# Altium schematic symbol library spacemonochrome-WR_TBL.SchLib: 1696 symbols (part 20 of 28)
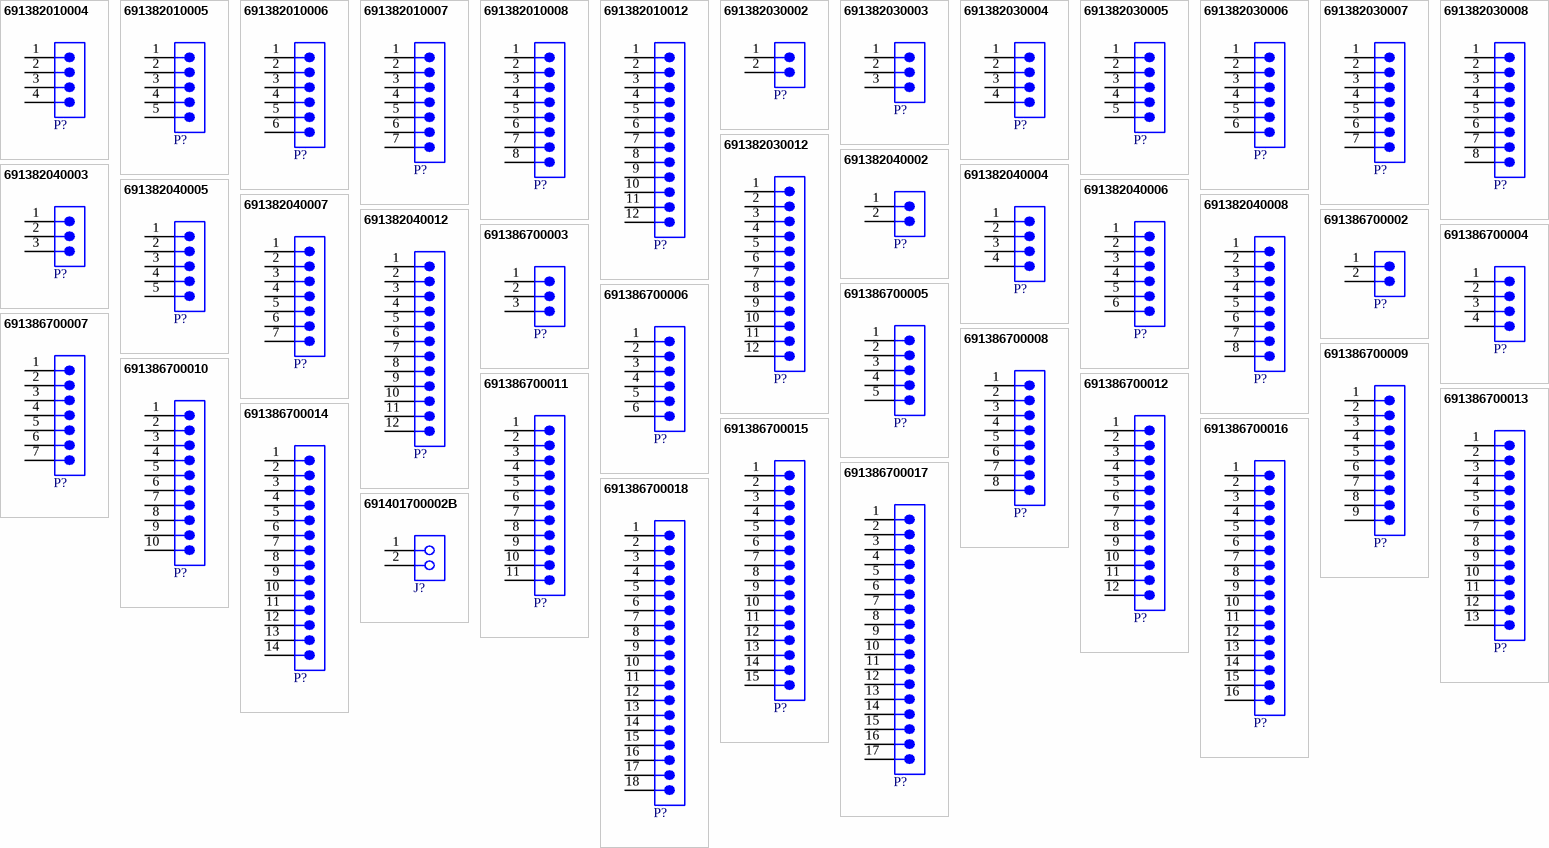
[diagram p61: symbols 691382010004 to 691401700002B]

## 691382040006
designator P?  (value not drawn)
WR-TBL Series 382 Horizontal PCB Header with Flanges, THT, pitch 2.5mm, 6p; Manufacturer: Wurth Elektronik; Modularity: No; Rated Current: 4A; Working Voltage: 160V; ComponentLink1Description: Website Link; ComponentLink1URL: https://www.we-online.com/redexpert/article/691382040006?ad; ComponentLink2Description: Datasheet Link; ComponentLink2URL: https://www.we-online.com/redexpert/spec/691382040006?ad; Manufacturer Part Number: 691382040006; Category: Terminal Blocks; Match Code: WR-TBL; Mount: Through Hole; Operating Temperature Max: 105°C; Operating Temperature Min: -40°C; Packaging: Box; Application: Pluggable; Number of Pins: 6; Number of Rows: 1; Orientation: Horizontal; Pitch: 2.5mm
footprint 691382040006
pins: 1, 2, 3, 4, 5, 6

## 691382040007
designator P?  (value not drawn)
WR-TBL Series 382 Horizontal PCB Header with Flanges, THT, pitch 2.5mm, 7p; Manufacturer: Wurth Elektronik; Modularity: No; Rated Current: 4A; Working Voltage: 160V; ComponentLink1Description: Website Link; ComponentLink1URL: https://www.we-online.com/redexpert/article/691382040007?ad; ComponentLink2Description: Datasheet Link; ComponentLink2URL: https://www.we-online.com/redexpert/spec/691382040007?ad; Manufacturer Part Number: 691382040007; Category: Terminal Blocks; Match Code: WR-TBL; Mount: Through Hole; Operating Temperature Max: 105°C; Operating Temperature Min: -40°C; Packaging: Box; Application: Pluggable; Number of Pins: 7; Number of Rows: 1; Orientation: Horizontal; Pitch: 2.5mm
footprint 691382040007
pins: 1, 2, 3, 4, 5, 6, 7

## 691382040008
designator P?  (value not drawn)
WR-TBL Series 382 Horizontal PCB Header with Flanges, THT, pitch 2.5mm, 8p; Manufacturer: Wurth Elektronik; Modularity: No; Rated Current: 4A; Working Voltage: 160V; ComponentLink1Description: Website Link; ComponentLink1URL: https://www.we-online.com/redexpert/article/691382040008?ad; ComponentLink2Description: Datasheet Link; ComponentLink2URL: https://www.we-online.com/redexpert/spec/691382040008?ad; Manufacturer Part Number: 691382040008; Category: Terminal Blocks; Match Code: WR-TBL; Mount: Through Hole; Operating Temperature Max: 105°C; Operating Temperature Min: -40°C; Packaging: Box; Application: Pluggable; Number of Pins: 8; Number of Rows: 1; Orientation: Horizontal; Pitch: 2.5mm
footprint 691382040008
pins: 1, 2, 3, 4, 5, 6, 7, 8

## 691382040012
designator P?  (value not drawn)
WR-TBL Series 382 Horizontal PCB Header with Flanges, THT, pitch 2.5mm, 12p; Manufacturer: Wurth Elektronik; Modularity: No; Rated Current: 4A; Working Voltage: 160V; ComponentLink1Description: Website Link; ComponentLink1URL: https://www.we-online.com/redexpert/article/691382040012?ad; ComponentLink2Description: Datasheet Link; ComponentLink2URL: https://www.we-online.com/redexpert/spec/691382040012?ad; Manufacturer Part Number: 691382040012; Category: Terminal Blocks; Match Code: WR-TBL; Mount: Through Hole; Operating Temperature Max: 105°C; Operating Temperature Min: -40°C; Packaging: Box; Application: Pluggable; Number of Pins: 12; Number of Rows: 1; Orientation: Horizontal; Pitch: 2.5mm
footprint 691382040012
pins: 1, 2, 3, 4, 5, 6, 7, 8, 9, 10, 11, 12

## 691386700002
designator P?  (value not drawn)
WR-TBL Series 386 Horizontal/Vertical Divisible PCB Header, THT, pitch 5mm, 2p; Manufacturer: Wurth Elektronik; Modularity: No; Rated Current: 14A; Working Voltage: 300V; ComponentLink1Description: Website Link; ComponentLink1URL: https://www.we-online.com/redexpert/article/691386700002?ad; ComponentLink2Description: Datasheet Link; ComponentLink2URL: https://www.we-online.com/redexpert/spec/691386700002?ad; Manufacturer Part Number: 691386700002; Category: Terminal Blocks; Match Code: WR-TBL; Mount: Through Hole; Operating Temperature Max: 120°C; Operating Temperature Min: -30°C; Packaging: Box; Application: Pluggable; Number of Pins: 2; Number of Rows: 1; Orientation: Horizontal/Vertical; Pitch: 5mm
footprint 691386700002
pins: 1, 2

## 691386700003
designator P?  (value not drawn)
WR-TBL Series 386 Horizontal/Vertical Divisible PCB Header, THT, pitch 5mm, 3p; Manufacturer: Wurth Elektronik; Modularity: No; Rated Current: 14A; Working Voltage: 300V; ComponentLink1Description: Website Link; ComponentLink1URL: https://www.we-online.com/redexpert/article/691386700003?ad; ComponentLink2Description: Datasheet Link; ComponentLink2URL: https://www.we-online.com/redexpert/spec/691386700003?ad; Manufacturer Part Number: 691386700003; Category: Terminal Blocks; Match Code: WR-TBL; Mount: Through Hole; Operating Temperature Max: 120°C; Operating Temperature Min: -30°C; Packaging: Box; Application: Pluggable; Number of Pins: 3; Number of Rows: 1; Orientation: Horizontal/Vertical; Pitch: 5mm
footprint 691386700003
pins: 1, 2, 3

## 691386700004
designator P?  (value not drawn)
WR-TBL Series 386 Horizontal/Vertical Divisible PCB Header, THT, pitch 5mm, 4p; Manufacturer: Wurth Elektronik; Modularity: No; Rated Current: 14A; Working Voltage: 300V; ComponentLink1Description: Website Link; ComponentLink1URL: https://www.we-online.com/redexpert/article/691386700004?ad; ComponentLink2Description: Datasheet Link; ComponentLink2URL: https://www.we-online.com/redexpert/spec/691386700004?ad; Manufacturer Part Number: 691386700004; Category: Terminal Blocks; Match Code: WR-TBL; Mount: Through Hole; Operating Temperature Max: 120°C; Operating Temperature Min: -30°C; Packaging: Box; Application: Pluggable; Number of Pins: 4; Number of Rows: 1; Orientation: Horizontal/Vertical; Pitch: 5mm
footprint 691386700004
pins: 1, 2, 3, 4

## 691386700005
designator P?  (value not drawn)
WR-TBL Series 386 Horizontal/Vertical Divisible PCB Header, THT, pitch 5mm, 5p; Manufacturer: Wurth Elektronik; Modularity: No; Rated Current: 14A; Working Voltage: 300V; ComponentLink1Description: Website Link; ComponentLink1URL: https://www.we-online.com/redexpert/article/691386700005?ad; ComponentLink2Description: Datasheet Link; ComponentLink2URL: https://www.we-online.com/redexpert/spec/691386700005?ad; Manufacturer Part Number: 691386700005; Category: Terminal Blocks; Match Code: WR-TBL; Mount: Through Hole; Operating Temperature Max: 120°C; Operating Temperature Min: -30°C; Packaging: Box; Application: Pluggable; Number of Pins: 5; Number of Rows: 1; Orientation: Horizontal/Vertical; Pitch: 5mm
footprint 691386700005
pins: 1, 2, 3, 4, 5

## 691386700006
designator P?  (value not drawn)
WR-TBL Series 386 Horizontal/Vertical Divisible PCB Header, THT, pitch 5mm, 6p; Manufacturer: Wurth Elektronik; Modularity: No; Rated Current: 14A; Working Voltage: 300V; ComponentLink1Description: Website Link; ComponentLink1URL: https://www.we-online.com/redexpert/article/691386700006?ad; ComponentLink2Description: Datasheet Link; ComponentLink2URL: https://www.we-online.com/redexpert/spec/691386700006?ad; Manufacturer Part Number: 691386700006; Category: Terminal Blocks; Match Code: WR-TBL; Mount: Through Hole; Operating Temperature Max: 120°C; Operating Temperature Min: -30°C; Packaging: Box; Application: Pluggable; Number of Pins: 6; Number of Rows: 1; Orientation: Horizontal/Vertical; Pitch: 5mm
footprint 691386700006
pins: 1, 2, 3, 4, 5, 6

## 691386700007
designator P?  (value not drawn)
WR-TBL Series 386 Horizontal/Vertical Divisible PCB Header, THT, pitch 5mm, 7p; Manufacturer: Wurth Elektronik; Modularity: No; Rated Current: 14A; Working Voltage: 300V; ComponentLink1Description: Website Link; ComponentLink1URL: https://www.we-online.com/redexpert/article/691386700007?ad; ComponentLink2Description: Datasheet Link; ComponentLink2URL: https://www.we-online.com/redexpert/spec/691386700007?ad; Manufacturer Part Number: 691386700007; Category: Terminal Blocks; Match Code: WR-TBL; Mount: Through Hole; Operating Temperature Max: 120°C; Operating Temperature Min: -30°C; Packaging: Box; Application: Pluggable; Number of Pins: 7; Number of Rows: 1; Orientation: Horizontal/Vertical; Pitch: 5mm
footprint 691386700007
pins: 1, 2, 3, 4, 5, 6, 7

## 691386700008
designator P?  (value not drawn)
WR-TBL Series 386 Horizontal/Vertical Divisible PCB Header, THT, pitch 5mm, 8p; Manufacturer: Wurth Elektronik; Modularity: No; Rated Current: 14A; Working Voltage: 300V; ComponentLink1Description: Website Link; ComponentLink1URL: https://www.we-online.com/redexpert/article/691386700008?ad; ComponentLink2Description: Datasheet Link; ComponentLink2URL: https://www.we-online.com/redexpert/spec/691386700008?ad; Manufacturer Part Number: 691386700008; Category: Terminal Blocks; Match Code: WR-TBL; Mount: Through Hole; Operating Temperature Max: 120°C; Operating Temperature Min: -30°C; Packaging: Box; Application: Pluggable; Number of Pins: 8; Number of Rows: 1; Orientation: Horizontal/Vertical; Pitch: 5mm
footprint 691386700008
pins: 1, 2, 3, 4, 5, 6, 7, 8

## 691386700009
designator P?  (value not drawn)
WR-TBL Series 386 Horizontal/Vertical Divisible PCB Header, THT, pitch 5mm, 9p; Manufacturer: Wurth Elektronik; Modularity: No; Rated Current: 14A; Working Voltage: 300V; ComponentLink1Description: Website Link; ComponentLink1URL: https://www.we-online.com/redexpert/article/691386700009?ad; ComponentLink2Description: Datasheet Link; ComponentLink2URL: https://www.we-online.com/redexpert/spec/691386700009?ad; Manufacturer Part Number: 691386700009; Category: Terminal Blocks; Match Code: WR-TBL; Mount: Through Hole; Operating Temperature Max: 120°C; Operating Temperature Min: -30°C; Packaging: Box; Application: Pluggable; Number of Pins: 9; Number of Rows: 1; Orientation: Horizontal/Vertical; Pitch: 5mm
footprint 691386700009
pins: 1, 2, 3, 4, 5, 6, 7, 8, 9

## 691386700010
designator P?  (value not drawn)
WR-TBL Series 386 Horizontal/Vertical Divisible PCB Header, THT, pitch 5mm, 10p; Manufacturer: Wurth Elektronik; Modularity: No; Rated Current: 14A; Working Voltage: 300V; ComponentLink1Description: Website Link; ComponentLink1URL: https://www.we-online.com/redexpert/article/691386700010?ad; ComponentLink2Description: Datasheet Link; ComponentLink2URL: https://www.we-online.com/redexpert/spec/691386700010?ad; Manufacturer Part Number: 691386700010; Category: Terminal Blocks; Match Code: WR-TBL; Mount: Through Hole; Operating Temperature Max: 120°C; Operating Temperature Min: -30°C; Packaging: Box; Application: Pluggable; Number of Pins: 10; Number of Rows: 1; Orientation: Horizontal/Vertical; Pitch: 5mm
footprint 691386700010
pins: 1, 2, 3, 4, 5, 6, 7, 8, 9, 10

## 691386700011
designator P?  (value not drawn)
WR-TBL Series 386 Horizontal/Vertical Divisible PCB Header, THT, pitch 5mm, 11p; Manufacturer: Wurth Elektronik; Modularity: No; Rated Current: 14A; Working Voltage: 300V; ComponentLink1Description: Website Link; ComponentLink1URL: https://www.we-online.com/redexpert/article/691386700011?ad; ComponentLink2Description: Datasheet Link; ComponentLink2URL: https://www.we-online.com/redexpert/spec/691386700011?ad; Manufacturer Part Number: 691386700011; Category: Terminal Blocks; Match Code: WR-TBL; Mount: Through Hole; Operating Temperature Max: 120°C; Operating Temperature Min: -30°C; Packaging: Box; Application: Pluggable; Number of Pins: 11; Number of Rows: 1; Orientation: Horizontal/Vertical; Pitch: 5mm
footprint 691386700011
pins: 1, 2, 3, 4, 5, 6, 7, 8, 9, 10, 11

## 691386700012
designator P?  (value not drawn)
WR-TBL Series 386 Horizontal/Vertical Divisible PCB Header, THT, pitch 5mm, 12p; Manufacturer: Wurth Elektronik; Modularity: No; Rated Current: 14A; Working Voltage: 300V; ComponentLink1Description: Website Link; ComponentLink1URL: https://www.we-online.com/redexpert/article/691386700012?ad; ComponentLink2Description: Datasheet Link; ComponentLink2URL: https://www.we-online.com/redexpert/spec/691386700012?ad; Manufacturer Part Number: 691386700012; Category: Terminal Blocks; Match Code: WR-TBL; Mount: Through Hole; Operating Temperature Max: 120°C; Operating Temperature Min: -30°C; Packaging: Box; Application: Pluggable; Number of Pins: 12; Number of Rows: 1; Orientation: Horizontal/Vertical; Pitch: 5mm
footprint 691386700012
pins: 1, 2, 3, 4, 5, 6, 7, 8, 9, 10, 11, 12

## 691386700013
designator P?  (value not drawn)
WR-TBL Series 386 Horizontal/Vertical Divisible PCB Header, THT, pitch 5mm, 13p; Manufacturer: Wurth Elektronik; Modularity: No; Rated Current: 14A; Working Voltage: 300V; ComponentLink1Description: Website Link; ComponentLink1URL: https://www.we-online.com/redexpert/article/691386700013?ad; ComponentLink2Description: Datasheet Link; ComponentLink2URL: https://www.we-online.com/redexpert/spec/691386700013?ad; Manufacturer Part Number: 691386700013; Category: Terminal Blocks; Match Code: WR-TBL; Mount: Through Hole; Operating Temperature Max: 120°C; Operating Temperature Min: -30°C; Packaging: Box; Application: Pluggable; Number of Pins: 13; Number of Rows: 1; Orientation: Horizontal/Vertical; Pitch: 5mm
footprint 691386700013
pins: 1, 2, 3, 4, 5, 6, 7, 8, 9, 10, 11, 12, 13

## 691386700014
designator P?  (value not drawn)
WR-TBL Series 386 Horizontal/Vertical Divisible PCB Header, THT, pitch 5mm, 14p; Manufacturer: Wurth Elektronik; Modularity: No; Rated Current: 14A; Working Voltage: 300V; ComponentLink1Description: Website Link; ComponentLink1URL: https://www.we-online.com/redexpert/article/691386700014?ad; ComponentLink2Description: Datasheet Link; ComponentLink2URL: https://www.we-online.com/redexpert/spec/691386700014?ad; Manufacturer Part Number: 691386700014; Category: Terminal Blocks; Match Code: WR-TBL; Mount: Through Hole; Operating Temperature Max: 120°C; Operating Temperature Min: -30°C; Packaging: Box; Application: Pluggable; Number of Pins: 14; Number of Rows: 1; Orientation: Horizontal/Vertical; Pitch: 5mm
footprint 691386700014
pins: 1, 2, 3, 4, 5, 6, 7, 8, 9, 10, 11, 12, 13, 14

## 691386700015
designator P?  (value not drawn)
WR-TBL Series 386 Horizontal/Vertical Divisible PCB Header, THT, pitch 5mm, 15p; Manufacturer: Wurth Elektronik; Modularity: No; Rated Current: 14A; Working Voltage: 300V; ComponentLink1Description: Website Link; ComponentLink1URL: https://www.we-online.com/redexpert/article/691386700015?ad; ComponentLink2Description: Datasheet Link; ComponentLink2URL: https://www.we-online.com/redexpert/spec/691386700015?ad; Manufacturer Part Number: 691386700015; Category: Terminal Blocks; Match Code: WR-TBL; Mount: Through Hole; Operating Temperature Max: 120°C; Operating Temperature Min: -30°C; Packaging: Box; Application: Pluggable; Number of Pins: 15; Number of Rows: 1; Orientation: Horizontal/Vertical; Pitch: 5mm
footprint 691386700015
pins: 1, 2, 3, 4, 5, 6, 7, 8, 9, 10, 11, 12, 13, 14, 15

## 691386700016
designator P?  (value not drawn)
WR-TBL Series 386 Horizontal/Vertical Divisible PCB Header, THT, pitch 5mm, 16p; Manufacturer: Wurth Elektronik; Modularity: No; Rated Current: 14A; Working Voltage: 300V; ComponentLink1Description: Website Link; ComponentLink1URL: https://www.we-online.com/redexpert/article/691386700016?ad; ComponentLink2Description: Datasheet Link; ComponentLink2URL: https://www.we-online.com/redexpert/spec/691386700016?ad; Manufacturer Part Number: 691386700016; Category: Terminal Blocks; Match Code: WR-TBL; Mount: Through Hole; Operating Temperature Max: 120°C; Operating Temperature Min: -30°C; Packaging: Box; Application: Pluggable; Number of Pins: 16; Number of Rows: 1; Orientation: Horizontal/Vertical; Pitch: 5mm
footprint 691386700016
pins: 1, 2, 3, 4, 5, 6, 7, 8, 9, 10, 11, 12, 13, 14, 15, 16

## 691386700017
designator P?  (value not drawn)
WR-TBL Series 386 Horizontal/Vertical Divisible PCB Header, THT, pitch 5mm, 17p; Manufacturer: Wurth Elektronik; Modularity: No; Rated Current: 14A; Working Voltage: 300V; ComponentLink1Description: Website Link; ComponentLink1URL: https://www.we-online.com/redexpert/article/691386700017?ad; ComponentLink2Description: Datasheet Link; ComponentLink2URL: https://www.we-online.com/redexpert/spec/691386700017?ad; Manufacturer Part Number: 691386700017; Category: Terminal Blocks; Match Code: WR-TBL; Mount: Through Hole; Operating Temperature Max: 120°C; Operating Temperature Min: -30°C; Packaging: Box; Application: Pluggable; Number of Pins: 17; Number of Rows: 1; Orientation: Horizontal/Vertical; Pitch: 5mm
footprint 691386700017
pins: 1, 2, 3, 4, 5, 6, 7, 8, 9, 10, 11, 12, 13, 14, 15, 16, 17

## 691386700018
designator P?  (value not drawn)
WR-TBL Series 386 Horizontal/Vertical Divisible PCB Header, THT, pitch 5mm, 18p; Manufacturer: Wurth Elektronik; Modularity: No; Rated Current: 14A; Working Voltage: 300V; ComponentLink1Description: Website Link; ComponentLink1URL: https://www.we-online.com/redexpert/article/691386700018?ad; ComponentLink2Description: Datasheet Link; ComponentLink2URL: https://www.we-online.com/redexpert/spec/691386700018?ad; Manufacturer Part Number: 691386700018; Category: Terminal Blocks; Match Code: WR-TBL; Mount: Through Hole; Operating Temperature Max: 120°C; Operating Temperature Min: -30°C; Packaging: Box; Application: Pluggable; Number of Pins: 18; Number of Rows: 1; Orientation: Horizontal/Vertical; Pitch: 5mm
footprint 691386700018
pins: 1, 2, 3, 4, 5, 6, 7, 8, 9, 10, 11, 12, 13, 14, 15, 16, 17, 18

## 691401700002B
designator J?  (value not drawn)
WR-TBL Series 401B Vertical Entry, THT, pitch 5mm, 2p; Manufacturer: Wurth Elektronik; Modularity: No; Rated Current: 10A; Working Voltage: 300V; ComponentLink1Description: Website Link; ComponentLink1URL: https://www.we-online.com/redexpert/article/691401700002B?ad; ComponentLink2Description: Datasheet Link; ComponentLink2URL: https://www.we-online.com/redexpert/spec/691401700002B?ad; Manufacturer Part Number: 691401700002B; Category: Terminal Blocks; Match Code: WR-TBL; Mount: Through Hole; Operating Temperature Max: 105°C; Operating Temperature Min: -40°C; Packaging: Box; Application: Screwless; Number of Pins: 2; Number of Rows: 1; Orientation: Vertical; Pitch: 5mm
footprint 691401700002B
pins: 1, 2

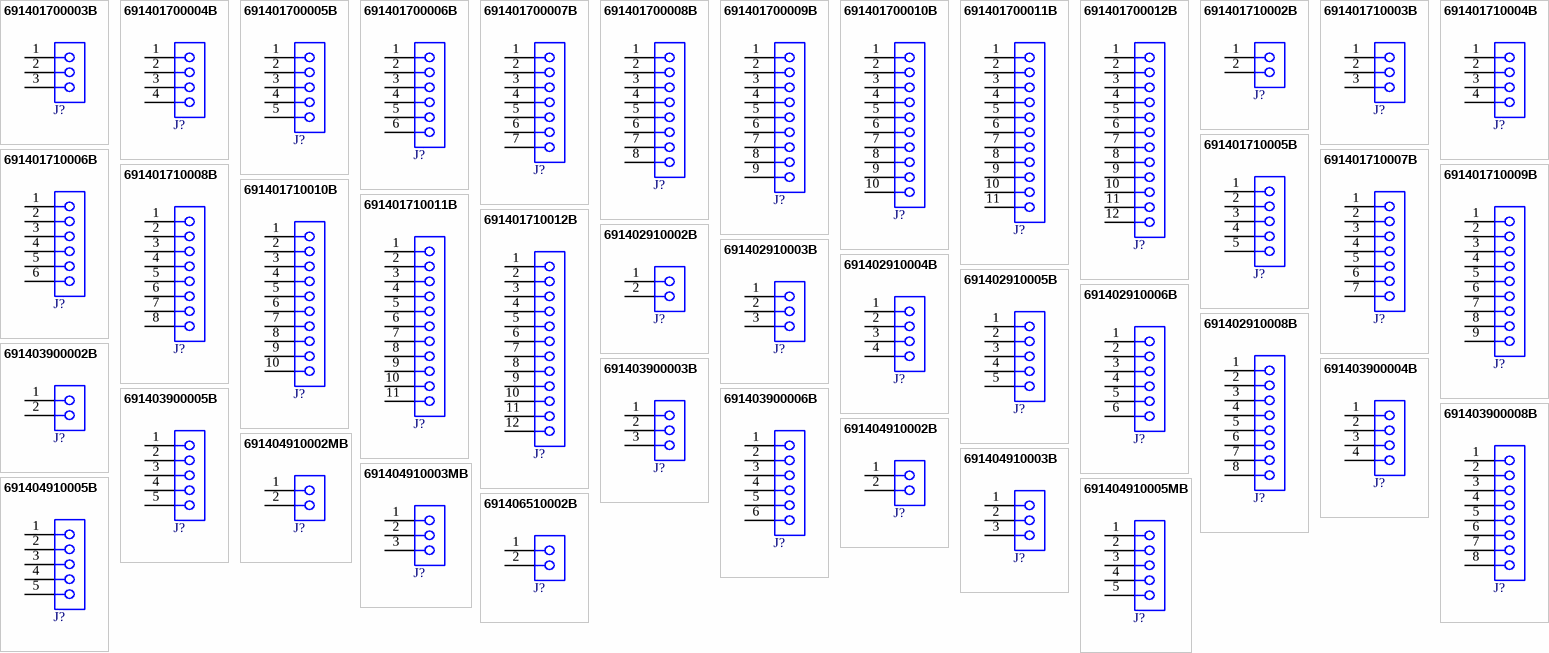
[diagram p30: symbols 691401700003B to 691406510002B]

## 691401700003B
designator J?  (value not drawn)
WR-TBL Series 401B Vertical Entry, THT, pitch 5mm, 3p; Manufacturer: Wurth Elektronik; Modularity: No; Rated Current: 10A; Working Voltage: 300V; ComponentLink1Description: Website Link; ComponentLink1URL: https://www.we-online.com/redexpert/article/691401700003B?ad; ComponentLink2Description: Datasheet Link; ComponentLink2URL: https://www.we-online.com/redexpert/spec/691401700003B?ad; Manufacturer Part Number: 691401700003B; Category: Terminal Blocks; Match Code: WR-TBL; Mount: Through Hole; Operating Temperature Max: 105°C; Operating Temperature Min: -40°C; Packaging: Box; Application: Screwless; Number of Pins: 3; Number of Rows: 1; Orientation: Vertical; Pitch: 5mm
footprint 691401700003B
pins: 1, 2, 3

## 691401700004B
designator J?  (value not drawn)
WR-TBL Series 401B Vertical Entry, THT, pitch 5mm, 4p; Manufacturer: Wurth Elektronik; Modularity: No; Rated Current: 10A; Working Voltage: 300V; ComponentLink1Description: Website Link; ComponentLink1URL: https://www.we-online.com/redexpert/article/691401700004B?ad; ComponentLink2Description: Datasheet Link; ComponentLink2URL: https://www.we-online.com/redexpert/spec/691401700004B?ad; Manufacturer Part Number: 691401700004B; Category: Terminal Blocks; Match Code: WR-TBL; Mount: Through Hole; Operating Temperature Max: 105°C; Operating Temperature Min: -40°C; Packaging: Box; Application: Screwless; Number of Pins: 4; Number of Rows: 1; Orientation: Vertical; Pitch: 5mm
footprint 691401700004B
pins: 1, 2, 3, 4

## 691401700005B
designator J?  (value not drawn)
WR-TBL Series 401B Vertical Entry, THT, pitch 5mm, 5p; Manufacturer: Wurth Elektronik; Modularity: No; Rated Current: 10A; Working Voltage: 300V; ComponentLink1Description: Website Link; ComponentLink1URL: https://www.we-online.com/redexpert/article/691401700005B?ad; ComponentLink2Description: Datasheet Link; ComponentLink2URL: https://www.we-online.com/redexpert/spec/691401700005B?ad; Manufacturer Part Number: 691401700005B; Category: Terminal Blocks; Match Code: WR-TBL; Mount: Through Hole; Operating Temperature Max: 105°C; Operating Temperature Min: -40°C; Packaging: Box; Application: Screwless; Number of Pins: 5; Number of Rows: 1; Orientation: Vertical; Pitch: 5mm
footprint 691401700005B
pins: 1, 2, 3, 4, 5

## 691401700006B
designator J?  (value not drawn)
WR-TBL Series 401B Vertical Entry, THT, pitch 5mm, 6p; Manufacturer: Wurth Elektronik; Modularity: No; Rated Current: 10A; Working Voltage: 300V; ComponentLink1Description: Website Link; ComponentLink1URL: https://www.we-online.com/redexpert/article/691401700006B?ad; ComponentLink2Description: Datasheet Link; ComponentLink2URL: https://www.we-online.com/redexpert/spec/691401700006B?ad; Manufacturer Part Number: 691401700006B; Category: Terminal Blocks; Match Code: WR-TBL; Mount: Through Hole; Operating Temperature Max: 105°C; Operating Temperature Min: -40°C; Packaging: Box; Application: Screwless; Number of Pins: 6; Number of Rows: 1; Orientation: Vertical; Pitch: 5mm
footprint 691401700006B
pins: 1, 2, 3, 4, 5, 6

## 691401700007B
designator J?  (value not drawn)
WR-TBL Series 401B Vertical Entry, THT, pitch 5mm, 7p; Manufacturer: Wurth Elektronik; Modularity: No; Rated Current: 10A; Working Voltage: 300V; ComponentLink1Description: Website Link; ComponentLink1URL: https://www.we-online.com/redexpert/article/691401700007B?ad; ComponentLink2Description: Datasheet Link; ComponentLink2URL: https://www.we-online.com/redexpert/spec/691401700007B?ad; Manufacturer Part Number: 691401700007B; Category: Terminal Blocks; Match Code: WR-TBL; Mount: Through Hole; Operating Temperature Max: 105°C; Operating Temperature Min: -40°C; Packaging: Box; Application: Screwless; Number of Pins: 7; Number of Rows: 1; Orientation: Vertical; Pitch: 5mm
footprint 691401700007B
pins: 1, 2, 3, 4, 5, 6, 7

## 691401700008B
designator J?  (value not drawn)
WR-TBL Series 401B Vertical Entry, THT, pitch 5mm, 8p; Manufacturer: Wurth Elektronik; Modularity: No; Rated Current: 10A; Working Voltage: 300V; ComponentLink1Description: Website Link; ComponentLink1URL: https://www.we-online.com/redexpert/article/691401700008B?ad; ComponentLink2Description: Datasheet Link; ComponentLink2URL: https://www.we-online.com/redexpert/spec/691401700008B?ad; Manufacturer Part Number: 691401700008B; Category: Terminal Blocks; Match Code: WR-TBL; Mount: Through Hole; Operating Temperature Max: 105°C; Operating Temperature Min: -40°C; Packaging: Box; Application: Screwless; Number of Pins: 8; Number of Rows: 1; Orientation: Vertical; Pitch: 5mm
footprint 691401700008B
pins: 1, 2, 3, 4, 5, 6, 7, 8

## 691401700009B
designator J?  (value not drawn)
WR-TBL Series 401B Vertical Entry, THT, pitch 5mm, 9p; Manufacturer: Wurth Elektronik; Modularity: No; Rated Current: 10A; Working Voltage: 300V; ComponentLink1Description: Website Link; ComponentLink1URL: https://www.we-online.com/redexpert/article/691401700009B?ad; ComponentLink2Description: Datasheet Link; ComponentLink2URL: https://www.we-online.com/redexpert/spec/691401700009B?ad; Manufacturer Part Number: 691401700009B; Category: Terminal Blocks; Match Code: WR-TBL; Mount: Through Hole; Operating Temperature Max: 105°C; Operating Temperature Min: -40°C; Packaging: Box; Application: Screwless; Number of Pins: 9; Number of Rows: 1; Orientation: Vertical; Pitch: 5mm
footprint 691401700009B
pins: 1, 2, 3, 4, 5, 6, 7, 8, 9

## 691401700010B
designator J?  (value not drawn)
WR-TBL Series 401B Vertical Entry, THT, pitch 5mm, 10p; Manufacturer: Wurth Elektronik; Modularity: No; Rated Current: 10A; Working Voltage: 300V; ComponentLink1Description: Website Link; ComponentLink1URL: https://www.we-online.com/redexpert/article/691401700010B?ad; ComponentLink2Description: Datasheet Link; ComponentLink2URL: https://www.we-online.com/redexpert/spec/691401700010B?ad; Manufacturer Part Number: 691401700010B; Category: Terminal Blocks; Match Code: WR-TBL; Mount: Through Hole; Operating Temperature Max: 105°C; Operating Temperature Min: -40°C; Packaging: Box; Application: Screwless; Number of Pins: 10; Number of Rows: 1; Orientation: Vertical; Pitch: 5mm
footprint 691401700010B
pins: 1, 2, 3, 4, 5, 6, 7, 8, 9, 10

## 691401700011B
designator J?  (value not drawn)
WR-TBL Series 401B Vertical Entry, THT, pitch 5mm, 11p; Manufacturer: Wurth Elektronik; Modularity: No; Rated Current: 10A; Working Voltage: 300V; ComponentLink1Description: Website Link; ComponentLink1URL: https://www.we-online.com/redexpert/article/691401700011B?ad; ComponentLink2Description: Datasheet Link; ComponentLink2URL: https://www.we-online.com/redexpert/spec/691401700011B?ad; Manufacturer Part Number: 691401700011B; Category: Terminal Blocks; Match Code: WR-TBL; Mount: Through Hole; Operating Temperature Max: 105°C; Operating Temperature Min: -40°C; Packaging: Box; Application: Screwless; Number of Pins: 11; Number of Rows: 1; Orientation: Vertical; Pitch: 5mm
footprint 691401700011B
pins: 1, 2, 3, 4, 5, 6, 7, 8, 9, 10, 11

## 691401700012B
designator J?  (value not drawn)
WR-TBL Series 401B Vertical Entry, THT, pitch 5mm, 12p; Manufacturer: Wurth Elektronik; Modularity: No; Rated Current: 10A; Working Voltage: 300V; ComponentLink1Description: Website Link; ComponentLink1URL: https://www.we-online.com/redexpert/article/691401700012B?ad; ComponentLink2Description: Datasheet Link; ComponentLink2URL: https://www.we-online.com/redexpert/spec/691401700012B?ad; Manufacturer Part Number: 691401700012B; Category: Terminal Blocks; Match Code: WR-TBL; Mount: Through Hole; Operating Temperature Max: 105°C; Operating Temperature Min: -40°C; Packaging: Box; Application: Screwless; Number of Pins: 12; Number of Rows: 1; Orientation: Vertical; Pitch: 5mm
footprint 691401700012B
pins: 1, 2, 3, 4, 5, 6, 7, 8, 9, 10, 11, 12

## 691401710002B
designator J?  (value not drawn)
WR-TBL Series 401B Horizontal Entry, THT, pitch 5mm, 2p; Manufacturer: Wurth Elektronik; Modularity: No; Rated Current: 10A; Working Voltage: 300V; ComponentLink1Description: Website Link; ComponentLink1URL: https://www.we-online.com/redexpert/article/691401710002B?ad; ComponentLink2Description: Datasheet Link; ComponentLink2URL: https://www.we-online.com/redexpert/spec/691401710002B?ad; Manufacturer Part Number: 691401710002B; Category: Terminal Blocks; Match Code: WR-TBL; Mount: Through Hole; Operating Temperature Max: 105°C; Operating Temperature Min: -40°C; Packaging: Box; Application: Screwless; Number of Pins: 2; Number of Rows: 1; Orientation: Horizontal; Pitch: 5mm
footprint 691401710002B
pins: 1, 2

## 691401710003B
designator J?  (value not drawn)
WR-TBL Series 401B Horizontal Entry, THT, pitch 5mm, 3p; Manufacturer: Wurth Elektronik; Modularity: No; Rated Current: 10A; Working Voltage: 300V; ComponentLink1Description: Website Link; ComponentLink1URL: https://www.we-online.com/redexpert/article/691401710003B?ad; ComponentLink2Description: Datasheet Link; ComponentLink2URL: https://www.we-online.com/redexpert/spec/691401710003B?ad; Manufacturer Part Number: 691401710003B; Category: Terminal Blocks; Match Code: WR-TBL; Mount: Through Hole; Operating Temperature Max: 105°C; Operating Temperature Min: -40°C; Packaging: Box; Application: Screwless; Number of Pins: 3; Number of Rows: 1; Orientation: Horizontal; Pitch: 5mm
footprint 691401710003B
pins: 1, 2, 3

## 691401710004B
designator J?  (value not drawn)
WR-TBL Series 401B Horizontal Entry, THT, pitch 5mm, 4p; Manufacturer: Wurth Elektronik; Modularity: No; Rated Current: 10A; Working Voltage: 300V; ComponentLink1Description: Website Link; ComponentLink1URL: https://www.we-online.com/redexpert/article/691401710004B?ad; ComponentLink2Description: Datasheet Link; ComponentLink2URL: https://www.we-online.com/redexpert/spec/691401710004B?ad; Manufacturer Part Number: 691401710004B; Category: Terminal Blocks; Match Code: WR-TBL; Mount: Through Hole; Operating Temperature Max: 105°C; Operating Temperature Min: -40°C; Packaging: Box; Application: Screwless; Number of Pins: 4; Number of Rows: 1; Orientation: Horizontal; Pitch: 5mm
footprint 691401710004B
pins: 1, 2, 3, 4

## 691401710005B
designator J?  (value not drawn)
WR-TBL Series 401B Horizontal Entry, THT, pitch 5mm, 5p; Manufacturer: Wurth Elektronik; Modularity: No; Rated Current: 10A; Working Voltage: 300V; ComponentLink1Description: Website Link; ComponentLink1URL: https://www.we-online.com/redexpert/article/691401710005B?ad; ComponentLink2Description: Datasheet Link; ComponentLink2URL: https://www.we-online.com/redexpert/spec/691401710005B?ad; Manufacturer Part Number: 691401710005B; Category: Terminal Blocks; Match Code: WR-TBL; Mount: Through Hole; Operating Temperature Max: 105°C; Operating Temperature Min: -40°C; Packaging: Box; Application: Screwless; Number of Pins: 5; Number of Rows: 1; Orientation: Horizontal; Pitch: 5mm
footprint 691401710005B
pins: 1, 2, 3, 4, 5

## 691401710006B
designator J?  (value not drawn)
WR-TBL Series 401B Horizontal Entry, THT, pitch 5mm, 6p; Manufacturer: Wurth Elektronik; Modularity: No; Rated Current: 10A; Working Voltage: 300V; ComponentLink1Description: Website Link; ComponentLink1URL: https://www.we-online.com/redexpert/article/691401710006B?ad; ComponentLink2Description: Datasheet Link; ComponentLink2URL: https://www.we-online.com/redexpert/spec/691401710006B?ad; Manufacturer Part Number: 691401710006B; Category: Terminal Blocks; Match Code: WR-TBL; Mount: Through Hole; Operating Temperature Max: 105°C; Operating Temperature Min: -40°C; Packaging: Box; Application: Screwless; Number of Pins: 6; Number of Rows: 1; Orientation: Horizontal; Pitch: 5mm
footprint 691401710006B
pins: 1, 2, 3, 4, 5, 6

## 691401710007B
designator J?  (value not drawn)
WR-TBL Series 401B Horizontal Entry, THT, pitch 5mm, 7p; Manufacturer: Wurth Elektronik; Modularity: No; Rated Current: 10A; Working Voltage: 300V; ComponentLink1Description: Website Link; ComponentLink1URL: https://www.we-online.com/redexpert/article/691401710007B?ad; ComponentLink2Description: Datasheet Link; ComponentLink2URL: https://www.we-online.com/redexpert/spec/691401710007B?ad; Manufacturer Part Number: 691401710007B; Category: Terminal Blocks; Match Code: WR-TBL; Mount: Through Hole; Operating Temperature Max: 105°C; Operating Temperature Min: -40°C; Packaging: Box; Application: Screwless; Number of Pins: 7; Number of Rows: 1; Orientation: Horizontal; Pitch: 5mm
footprint 691401710007B
pins: 1, 2, 3, 4, 5, 6, 7

## 691401710008B
designator J?  (value not drawn)
WR-TBL Series 401B Horizontal Entry, THT, pitch 5mm, 8p; Manufacturer: Wurth Elektronik; Modularity: No; Rated Current: 10A; Working Voltage: 300V; ComponentLink1Description: Website Link; ComponentLink1URL: https://www.we-online.com/redexpert/article/691401710008B?ad; ComponentLink2Description: Datasheet Link; ComponentLink2URL: https://www.we-online.com/redexpert/spec/691401710008B?ad; Manufacturer Part Number: 691401710008B; Category: Terminal Blocks; Match Code: WR-TBL; Mount: Through Hole; Operating Temperature Max: 105°C; Operating Temperature Min: -40°C; Packaging: Box; Application: Screwless; Number of Pins: 8; Number of Rows: 1; Orientation: Horizontal; Pitch: 5mm
footprint 691401710008B
pins: 1, 2, 3, 4, 5, 6, 7, 8

## 691401710009B
designator J?  (value not drawn)
WR-TBL Series 401B Horizontal Entry, THT, pitch 5mm, 9p; Manufacturer: Wurth Elektronik; Modularity: No; Rated Current: 10A; Working Voltage: 300V; ComponentLink1Description: Website Link; ComponentLink1URL: https://www.we-online.com/redexpert/article/691401710009B?ad; ComponentLink2Description: Datasheet Link; ComponentLink2URL: https://www.we-online.com/redexpert/spec/691401710009B?ad; Manufacturer Part Number: 691401710009B; Category: Terminal Blocks; Match Code: WR-TBL; Mount: Through Hole; Operating Temperature Max: 105°C; Operating Temperature Min: -40°C; Packaging: Box; Application: Screwless; Number of Pins: 9; Number of Rows: 1; Orientation: Horizontal; Pitch: 5mm
footprint 691401710009B
pins: 1, 2, 3, 4, 5, 6, 7, 8, 9

## 691401710010B
designator J?  (value not drawn)
WR-TBL Series 401B Horizontal Entry, THT, pitch 5mm, 10p; Manufacturer: Wurth Elektronik; Modularity: No; Rated Current: 10A; Working Voltage: 300V; ComponentLink1Description: Website Link; ComponentLink1URL: https://www.we-online.com/redexpert/article/691401710010B?ad; ComponentLink2Description: Datasheet Link; ComponentLink2URL: https://www.we-online.com/redexpert/spec/691401710010B?ad; Manufacturer Part Number: 691401710010B; Category: Terminal Blocks; Match Code: WR-TBL; Mount: Through Hole; Operating Temperature Max: 105°C; Operating Temperature Min: -40°C; Packaging: Box; Application: Screwless; Number of Pins: 10; Number of Rows: 1; Orientation: Horizontal; Pitch: 5mm
footprint 691401710010B
pins: 1, 2, 3, 4, 5, 6, 7, 8, 9, 10

## 691401710011B
designator J?  (value not drawn)
WR-TBL Series 401B Horizontal Entry, THT, pitch 5mm, 11p; Manufacturer: Wurth Elektronik; Modularity: No; Rated Current: 10A; Working Voltage: 300V; ComponentLink1Description: Website Link; ComponentLink1URL: https://www.we-online.com/redexpert/article/691401710011B?ad; ComponentLink2Description: Datasheet Link; ComponentLink2URL: https://www.we-online.com/redexpert/spec/691401710011B?ad; Manufacturer Part Number: 691401710011B; Category: Terminal Blocks; Match Code: WR-TBL; Mount: Through Hole; Operating Temperature Max: 105°C; Operating Temperature Min: -40°C; Packaging: Box; Application: Screwless; Number of Pins: 11; Number of Rows: 1; Orientation: Horizontal; Pitch: 5mm
footprint 691401710011B
pins: 1, 2, 3, 4, 5, 6, 7, 8, 9, 10, 11

## 691401710012B
designator J?  (value not drawn)
WR-TBL Series 401B Horizontal Entry, THT, pitch 5mm, 12p; Manufacturer: Wurth Elektronik; Modularity: No; Rated Current: 10A; Working Voltage: 300V; ComponentLink1Description: Website Link; ComponentLink1URL: https://www.we-online.com/redexpert/article/691401710012B?ad; ComponentLink2Description: Datasheet Link; ComponentLink2URL: https://www.we-online.com/redexpert/spec/691401710012B?ad; Manufacturer Part Number: 691401710012B; Category: Terminal Blocks; Match Code: WR-TBL; Mount: Through Hole; Operating Temperature Max: 105°C; Operating Temperature Min: -40°C; Packaging: Box; Application: Screwless; Number of Pins: 12; Number of Rows: 1; Orientation: Horizontal; Pitch: 5mm
footprint 691401710012B
pins: 1, 2, 3, 4, 5, 6, 7, 8, 9, 10, 11, 12

## 691402910002B
designator J?  (value not drawn)
WR-TBL Series 4029 Horizontal Entry, THT, pitch 2.54mm, 2p; Manufacturer: Wurth Elektronik; Modularity: No; Rated Current: 6A; Working Voltage: 150V; ComponentLink1Description: Website Link; ComponentLink1URL: https://www.we-online.com/redexpert/article/691402910002B?ad; ComponentLink2Description: Datasheet Link; ComponentLink2URL: https://www.we-online.com/redexpert/spec/691402910002B?ad; Manufacturer Part Number: 691402910002B; Category: Terminal Blocks; Match Code: WR-TBL; Mount: Through Hole; Operating Temperature Max: 105°C; Operating Temperature Min: -40°C; Packaging: Box; Application: Screwless; Number of Pins: 2; Number of Rows: 1; Orientation: Horizontal; Pitch: 2.54mm
footprint 691402910002B
pins: 1, 2

## 691402910003B
designator J?  (value not drawn)
WR-TBL Series 4029 Horizontal Entry, THT, pitch 2.54mm, 3p; Manufacturer: Wurth Elektronik; Modularity: No; Rated Current: 6A; Working Voltage: 150V; ComponentLink1Description: Website Link; ComponentLink1URL: https://www.we-online.com/redexpert/article/691402910003B?ad; ComponentLink2Description: Datasheet Link; ComponentLink2URL: https://www.we-online.com/redexpert/spec/691402910003B?ad; Manufacturer Part Number: 691402910003B; Category: Terminal Blocks; Match Code: WR-TBL; Mount: Through Hole; Operating Temperature Max: 105°C; Operating Temperature Min: -40°C; Packaging: Box; Application: Screwless; Number of Pins: 3; Number of Rows: 1; Orientation: Horizontal; Pitch: 2.54mm
footprint 691402910003B
pins: 1, 2, 3

## 691402910004B
designator J?  (value not drawn)
WR-TBL Series 4029 Horizontal Entry, THT, pitch 2.54mm, 4p; Manufacturer: Wurth Elektronik; Modularity: No; Rated Current: 6A; Working Voltage: 150V; ComponentLink1Description: Website Link; ComponentLink1URL: https://www.we-online.com/redexpert/article/691402910004B?ad; ComponentLink2Description: Datasheet Link; ComponentLink2URL: https://www.we-online.com/redexpert/spec/691402910004B?ad; Manufacturer Part Number: 691402910004B; Category: Terminal Blocks; Match Code: WR-TBL; Mount: Through Hole; Operating Temperature Max: 105°C; Operating Temperature Min: -40°C; Packaging: Box; Application: Screwless; Number of Pins: 4; Number of Rows: 1; Orientation: Horizontal; Pitch: 2.54mm
footprint 691402910004B
pins: 1, 2, 3, 4

## 691402910005B
designator J?  (value not drawn)
WR-TBL Series 4029 Horizontal Entry, THT, pitch 2.54mm, 5p; Manufacturer: Wurth Elektronik; Modularity: No; Rated Current: 6A; Working Voltage: 150V; ComponentLink1Description: Website Link; ComponentLink1URL: https://www.we-online.com/redexpert/article/691402910005B?ad; ComponentLink2Description: Datasheet Link; ComponentLink2URL: https://www.we-online.com/redexpert/spec/691402910005B?ad; Manufacturer Part Number: 691402910005B; Category: Terminal Blocks; Match Code: WR-TBL; Mount: Through Hole; Operating Temperature Max: 105°C; Operating Temperature Min: -40°C; Packaging: Box; Application: Screwless; Number of Pins: 5; Number of Rows: 1; Orientation: Horizontal; Pitch: 2.54mm
footprint 691402910005B
pins: 1, 2, 3, 4, 5

## 691402910006B
designator J?  (value not drawn)
WR-TBL Series 4029 Horizontal Entry, THT, pitch 2.54mm, 6p; Manufacturer: Wurth Elektronik; Modularity: No; Rated Current: 6A; Working Voltage: 150V; ComponentLink1Description: Website Link; ComponentLink1URL: https://www.we-online.com/redexpert/article/691402910006B?ad; ComponentLink2Description: Datasheet Link; ComponentLink2URL: https://www.we-online.com/redexpert/spec/691402910006B?ad; Manufacturer Part Number: 691402910006B; Category: Terminal Blocks; Match Code: WR-TBL; Mount: Through Hole; Operating Temperature Max: 105°C; Operating Temperature Min: -40°C; Packaging: Box; Application: Screwless; Number of Pins: 6; Number of Rows: 1; Orientation: Horizontal; Pitch: 2.54mm
footprint 691402910006B
pins: 1, 2, 3, 4, 5, 6

## 691402910008B
designator J?  (value not drawn)
WR-TBL Series 4029 Horizontal Entry, THT, pitch 2.54mm, 8p; Manufacturer: Wurth Elektronik; Modularity: No; Rated Current: 6A; Working Voltage: 150V; ComponentLink1Description: Website Link; ComponentLink1URL: https://www.we-online.com/redexpert/article/691402910008B?ad; ComponentLink2Description: Datasheet Link; ComponentLink2URL: https://www.we-online.com/redexpert/spec/691402910008B?ad; Manufacturer Part Number: 691402910008B; Category: Terminal Blocks; Match Code: WR-TBL; Mount: Through Hole; Operating Temperature Max: 105°C; Operating Temperature Min: -40°C; Packaging: Box; Application: Screwless; Number of Pins: 8; Number of Rows: 1; Orientation: Horizontal; Pitch: 2.54mm
footprint 691402910008B
pins: 1, 2, 3, 4, 5, 6, 7, 8

## 691403900002B
designator J?  (value not drawn)
WR-TBL Series 4039 Vertical Entry, THT, pitch 2.54mm, 2p; Manufacturer: Wurth Elektronik; Modularity: No; Rated Current: 6A; Working Voltage: 150V; ComponentLink1Description: Website Link; ComponentLink1URL: https://www.we-online.com/redexpert/article/691403900002B?ad; ComponentLink2Description: Datasheet Link; ComponentLink2URL: https://www.we-online.com/redexpert/spec/691403900002B?ad; Manufacturer Part Number: 691403900002B; Category: Terminal Blocks; Match Code: WR-TBL; Mount: Through Hole; Operating Temperature Max: 105°C; Operating Temperature Min: -40°C; Packaging: Box; Application: Screwless; Number of Pins: 2; Number of Rows: 1; Orientation: Vertical; Pitch: 2.54mm
footprint 691403900002B
pins: 1, 2

## 691403900003B
designator J?  (value not drawn)
WR-TBL Series 4039 Vertical Entry, THT, pitch 2.54mm, 3p; Manufacturer: Wurth Elektronik; Modularity: No; Rated Current: 6A; Working Voltage: 150V; ComponentLink1Description: Website Link; ComponentLink1URL: https://www.we-online.com/redexpert/article/691403900003B?ad; ComponentLink2Description: Datasheet Link; ComponentLink2URL: https://www.we-online.com/redexpert/spec/691403900003B?ad; Manufacturer Part Number: 691403900003B; Category: Terminal Blocks; Match Code: WR-TBL; Mount: Through Hole; Operating Temperature Max: 105°C; Operating Temperature Min: -40°C; Packaging: Box; Application: Screwless; Number of Pins: 3; Number of Rows: 1; Orientation: Vertical; Pitch: 2.54mm
footprint 691403900003B
pins: 1, 2, 3

## 691403900004B
designator J?  (value not drawn)
WR-TBL Series 4039 Vertical Entry, THT, pitch 2.54mm, 4p; Manufacturer: Wurth Elektronik; Modularity: No; Rated Current: 6A; Working Voltage: 150V; ComponentLink1Description: Website Link; ComponentLink1URL: https://www.we-online.com/redexpert/article/691403900004B?ad; ComponentLink2Description: Datasheet Link; ComponentLink2URL: https://www.we-online.com/redexpert/spec/691403900004B?ad; Manufacturer Part Number: 691403900004B; Category: Terminal Blocks; Match Code: WR-TBL; Mount: Through Hole; Operating Temperature Max: 105°C; Operating Temperature Min: -40°C; Packaging: Box; Application: Screwless; Number of Pins: 4; Number of Rows: 1; Orientation: Vertical; Pitch: 2.54mm
footprint 691403900004B
pins: 1, 2, 3, 4

## 691403900005B
designator J?  (value not drawn)
WR-TBL Series 4039 Vertical Entry, THT, pitch 2.54mm, 5p; Manufacturer: Wurth Elektronik; Modularity: No; Rated Current: 6A; Working Voltage: 150V; ComponentLink1Description: Website Link; ComponentLink1URL: https://www.we-online.com/redexpert/article/691403900005B?ad; ComponentLink2Description: Datasheet Link; ComponentLink2URL: https://www.we-online.com/redexpert/spec/691403900005B?ad; Manufacturer Part Number: 691403900005B; Category: Terminal Blocks; Match Code: WR-TBL; Mount: Through Hole; Operating Temperature Max: 105°C; Operating Temperature Min: -40°C; Packaging: Box; Application: Screwless; Number of Pins: 5; Number of Rows: 1; Orientation: Vertical; Pitch: 2.54mm
footprint 691403900005B
pins: 1, 2, 3, 4, 5

## 691403900006B
designator J?  (value not drawn)
WR-TBL Series 4039 Vertical Entry, THT, pitch 2.54mm, 6p; Manufacturer: Wurth Elektronik; Modularity: No; Rated Current: 6A; Working Voltage: 150V; ComponentLink1Description: Website Link; ComponentLink1URL: https://www.we-online.com/redexpert/article/691403900006B?ad; ComponentLink2Description: Datasheet Link; ComponentLink2URL: https://www.we-online.com/redexpert/spec/691403900006B?ad; Manufacturer Part Number: 691403900006B; Category: Terminal Blocks; Match Code: WR-TBL; Mount: Through Hole; Operating Temperature Max: 105°C; Operating Temperature Min: -40°C; Packaging: Box; Application: Screwless; Number of Pins: 6; Number of Rows: 1; Orientation: Vertical; Pitch: 2.54mm
footprint 691403900006B
pins: 1, 2, 3, 4, 5, 6

## 691403900008B
designator J?  (value not drawn)
WR-TBL Series 4039 Vertical Entry, THT, pitch 2.54mm, 8p; Manufacturer: Wurth Elektronik; Modularity: No; Rated Current: 6A; Working Voltage: 150V; ComponentLink1Description: Website Link; ComponentLink1URL: https://www.we-online.com/redexpert/article/691403900008B?ad; ComponentLink2Description: Datasheet Link; ComponentLink2URL: https://www.we-online.com/redexpert/spec/691403900008B?ad; Manufacturer Part Number: 691403900008B; Category: Terminal Blocks; Match Code: WR-TBL; Mount: Through Hole; Operating Temperature Max: 105°C; Operating Temperature Min: -40°C; Packaging: Box; Application: Screwless; Number of Pins: 8; Number of Rows: 1; Orientation: Vertical; Pitch: 2.54mm
footprint 691403900008B
pins: 1, 2, 3, 4, 5, 6, 7, 8

## 691404910002B
designator J?  (value not drawn)
WR-TBL Series 4049B Horizontal Power Connector, THT, pitch 7.5mm, 2p; Manufacturer: Wurth Elektronik; Modularity: No; Rated Current: 30A; Working Voltage: 600V; ComponentLink1Description: Website Link; ComponentLink1URL: https://www.we-online.com/redexpert/article/691404910002B?ad; ComponentLink2Description: Datasheet Link; ComponentLink2URL: https://www.we-online.com/redexpert/spec/691404910002B?ad; Manufacturer Part Number: 691404910002B; Category: Terminal Blocks; Match Code: WR-TBL; Mount: Through Hole; Operating Temperature Max: 105°C; Operating Temperature Min: -40°C; Packaging: Box; Application: Screwless; Number of Pins: 2; Number of Rows: 1; Orientation: Horizontal Power Connector; Pitch: 7.5mm
footprint 691404910002B
pins: 1, 2

## 691404910002MB
designator J?  (value not drawn)
WR-TBL Series 4049MB Horizontal Power Connector, THT, pitch 7.5mm, 2p; Manufacturer: Wurth Elektronik; Modularity: No; Rated Current: 30A; Working Voltage: 600V; ComponentLink1Description: Website Link; ComponentLink1URL: https://www.we-online.com/redexpert/article/691404910002MB?ad; ComponentLink2Description: Datasheet Link; ComponentLink2URL: https://www.we-online.com/redexpert/spec/691404910002MB?ad; Manufacturer Part Number: 691404910002MB; Category: Terminal Blocks; Match Code: WR-TBL; Mount: Through Hole; Operating Temperature Max: 105°C; Operating Temperature Min: -40°C; Packaging: Box; Application: Screwless; Number of Pins: 2; Number of Rows: 1; Orientation: Horizontal Power Connector; Pitch: 7.5mm
footprint 691404910002MB
pins: 1, 2

## 691404910003B
designator J?  (value not drawn)
WR-TBL Series 4049B Horizontal Power Connector, THT, pitch 7.5mm, 3p; Manufacturer: Wurth Elektronik; Modularity: No; Rated Current: 30A; Working Voltage: 600V; ComponentLink1Description: Website Link; ComponentLink1URL: https://www.we-online.com/redexpert/article/691404910003B?ad; ComponentLink2Description: Datasheet Link; ComponentLink2URL: https://www.we-online.com/redexpert/spec/691404910003B?ad; Manufacturer Part Number: 691404910003B; Category: Terminal Blocks; Match Code: WR-TBL; Mount: Through Hole; Operating Temperature Max: 105°C; Operating Temperature Min: -40°C; Packaging: Box; Application: Screwless; Number of Pins: 3; Number of Rows: 1; Orientation: Horizontal Power Connector; Pitch: 7.5mm
footprint 691404910003B
pins: 1, 2, 3

## 691404910003MB
designator J?  (value not drawn)
WR-TBL Series 4049MB Horizontal Power Connector, THT, pitch 7.5mm, 3p; Manufacturer: Wurth Elektronik; Modularity: No; Rated Current: 30A; Working Voltage: 600V; ComponentLink1Description: Website Link; ComponentLink1URL: https://www.we-online.com/redexpert/article/691404910003MB?ad; ComponentLink2Description: Datasheet Link; ComponentLink2URL: https://www.we-online.com/redexpert/spec/691404910003MB?ad; Manufacturer Part Number: 691404910003MB; Category: Terminal Blocks; Match Code: WR-TBL; Mount: Through Hole; Operating Temperature Max: 105°C; Operating Temperature Min: -40°C; Packaging: Box; Application: Screwless; Number of Pins: 3; Number of Rows: 1; Orientation: Horizontal Power Connector; Pitch: 7.5mm
footprint 691404910003MB
pins: 1, 2, 3

## 691404910005B
designator J?  (value not drawn)
WR-TBL Series 4049B Horizontal Power Connector, THT, pitch 7.5mm, 5p; Manufacturer: Wurth Elektronik; Modularity: No; Rated Current: 30A; Working Voltage: 600V; ComponentLink1Description: Website Link; ComponentLink1URL: https://www.we-online.com/redexpert/article/691404910005B?ad; ComponentLink2Description: Datasheet Link; ComponentLink2URL: https://www.we-online.com/redexpert/spec/691404910005B?ad; Manufacturer Part Number: 691404910005B; Category: Terminal Blocks; Match Code: WR-TBL; Mount: Through Hole; Operating Temperature Max: 105°C; Operating Temperature Min: -40°C; Packaging: Box; Application: Screwless; Number of Pins: 5; Number of Rows: 1; Orientation: Horizontal Power Connector; Pitch: 7.5mm
footprint 691404910005B
pins: 1, 2, 3, 4, 5

## 691404910005MB
designator J?  (value not drawn)
WR-TBL Series 4049MB Horizontal Power Connector, THT, pitch 7.5mm, 5p; Manufacturer: Wurth Elektronik; Modularity: No; Rated Current: 30A; Working Voltage: 600V; ComponentLink1Description: Website Link; ComponentLink1URL: https://www.we-online.com/redexpert/article/691404910005MB?ad; ComponentLink2Description: Datasheet Link; ComponentLink2URL: https://www.we-online.com/redexpert/spec/691404910005MB?ad; Manufacturer Part Number: 691404910005MB; Category: Terminal Blocks; Match Code: WR-TBL; Mount: Through Hole; Operating Temperature Max: 105°C; Operating Temperature Min: -40°C; Packaging: Box; Application: Screwless; Number of Pins: 5; Number of Rows: 1; Orientation: Horizontal Power Connector; Pitch: 7.5mm
footprint 691404910005MB
pins: 1, 2, 3, 4, 5

## 691406510002B
designator J?  (value not drawn)
WR-TBL Series 4067B Horizontal cable entry, THT, pitch 5.08mm, 2p; Manufacturer: Wurth Elektronik; Modularity: Yes; Rated Current: 20A; Working Voltage: 300V; ComponentLink1Description: Website Link; ComponentLink1URL: https://www.we-online.com/redexpert/article/691406510002B?ad; ComponentLink2Description: Datasheet Link; ComponentLink2URL: https://www.we-online.com/redexpert/spec/691406510002B?ad; Manufacturer Part Number: 691406510002B; Category: Terminal Blocks; Match Code: WR-TBL; Mount: Through Hole; Operating Temperature Max: 105°C; Operating Temperature Min: -40°C; Packaging: Carton; Application: Screwless Push In; Number of Pins: 2; Number of Rows: 1; Orientation: Horizontal Cable Entry; Pitch: 5.08mm
footprint 691406510002B
pins: 1, 2

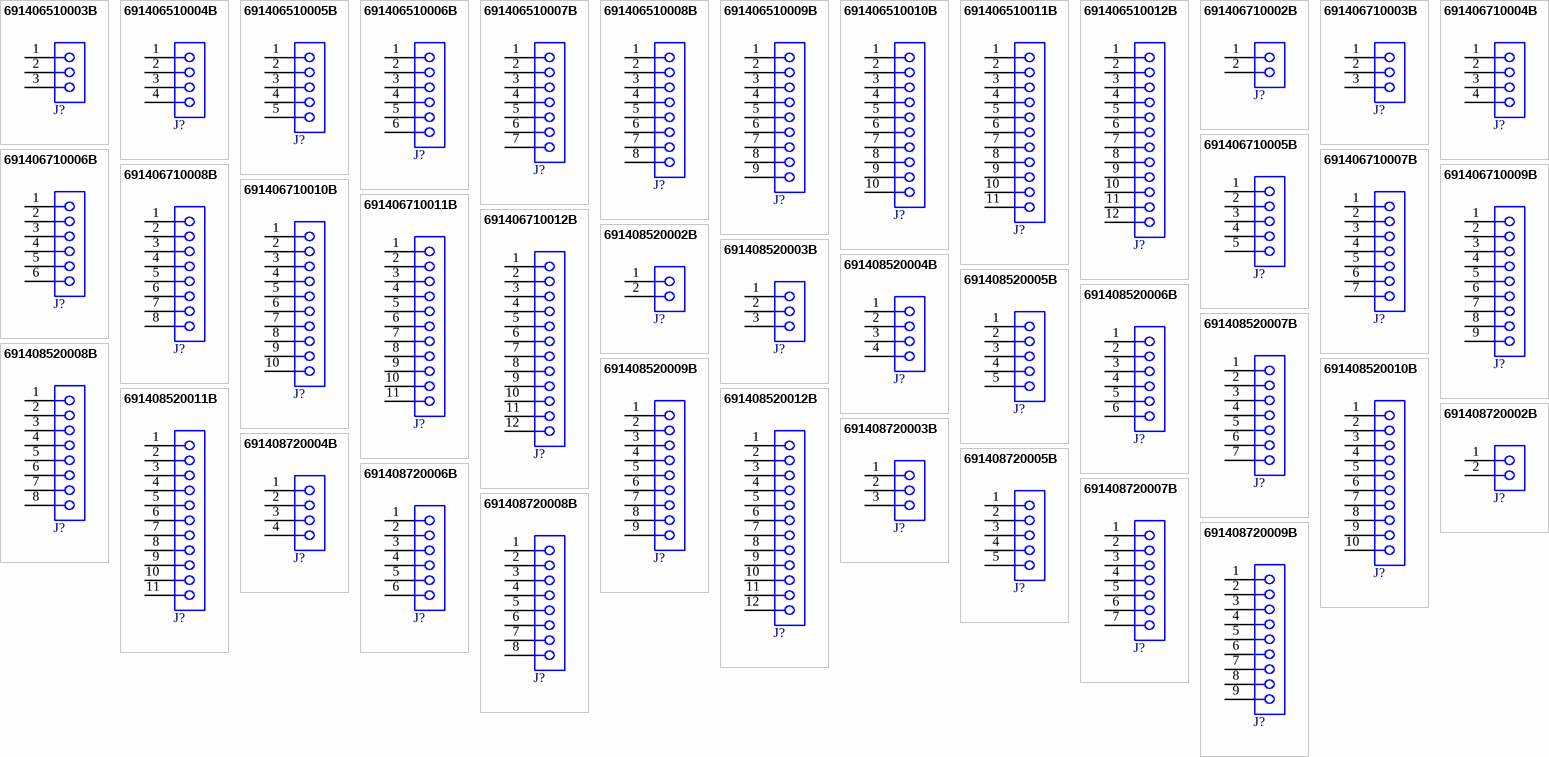
[diagram p31: symbols 691406510003B to 691408720009B]